# Altium schematic symbol library SCH - ARM Cortex - NXP K32L2B21VFM0A.SchLib: 1 symbol
Pins are listed as number, name and electrical type; pins without a type are passive.

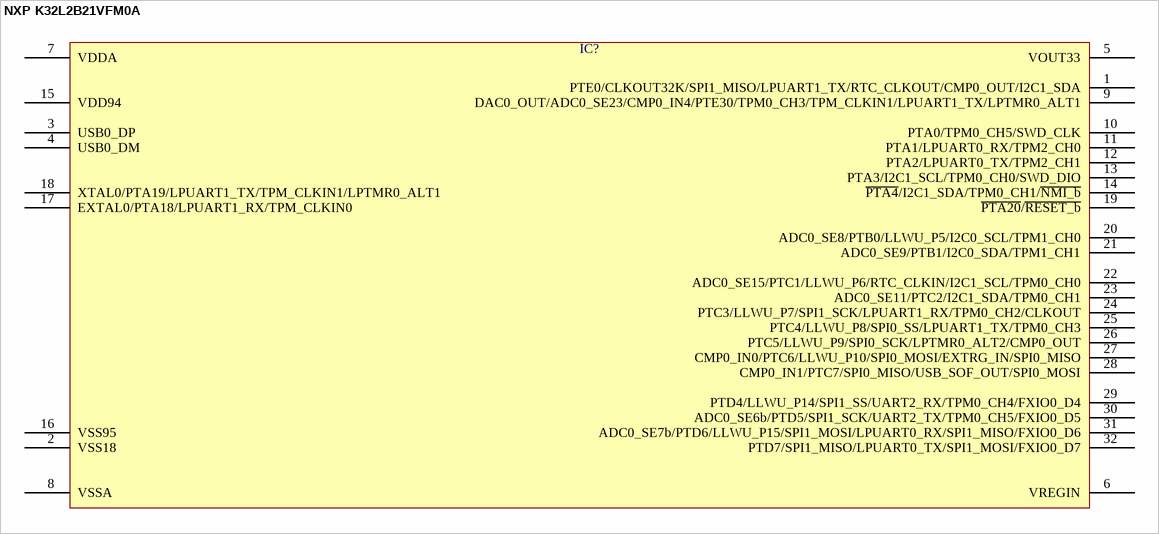
[diagram p0: symbol NXP K32L2B21VFM0A]

## NXP K32L2B21VFM0A
designator IC?  (value not drawn)
pins: 1 PTE0/CLKOUT32K/SPI1_MISO/LPUART1_TX/RTC_CLKOUT/CMP0_OUT/I2C1_SDA, 2 VSS18, 3 USB0_DP, 4 USB0_DM, 5 VOUT33, 6 VREGIN, 7 VDDA, 8 VSSA, 9 DAC0_OUT/ADC0_SE23/CMP0_IN4/PTE30/TPM0_CH3/TPM_CLKIN1/LPUART1_TX/LPTMR0_ALT1, 10 PTA0/TPM0_CH5/SWD_CLK, 11 PTA1/LPUART0_RX/TPM2_CH0, 12 PTA2/LPUART0_TX/TPM2_CH1, 13 PTA3/I2C1_SCL/TPM0_CH0/SWD_DIO, 14 ~{PTA4}/I2C1_SDA/TPM0_CH1/~{NMI_b}, 15 VDD94, 16 VSS95, 17 EXTAL0/PTA18/LPUART1_RX/TPM_CLKIN0, 18 XTAL0/PTA19/LPUART1_TX/TPM_CLKIN1/LPTMR0_ALT1, 19 ~{PTA20}/~{RESET_b}, 20 ADC0_SE8/PTB0/LLWU_P5/I2C0_SCL/TPM1_CH0, 21 ADC0_SE9/PTB1/I2C0_SDA/TPM1_CH1, 22 ADC0_SE15/PTC1/LLWU_P6/RTC_CLKIN/I2C1_SCL/TPM0_CH0, 23 ADC0_SE11/PTC2/I2C1_SDA/TPM0_CH1, 24 PTC3/LLWU_P7/SPI1_SCK/LPUART1_RX/TPM0_CH2/CLKOUT, 25 PTC4/LLWU_P8/SPI0_SS/LPUART1_TX/TPM0_CH3, 26 PTC5/LLWU_P9/SPI0_SCK/LPTMR0_ALT2/CMP0_OUT, 27 CMP0_IN0/PTC6/LLWU_P10/SPI0_MOSI/EXTRG_IN/SPI0_MISO, 28 CMP0_IN1/PTC7/SPI0_MISO/USB_SOF_OUT/SPI0_MOSI, 29 PTD4/LLWU_P14/SPI1_SS/UART2_RX/TPM0_CH4/FXIO0_D4, 30 ADC0_SE6b/PTD5/SPI1_SCK/UART2_TX/TPM0_CH5/FXIO0_D5, 31 ADC0_SE7b/PTD6/LLWU_P15/SPI1_MOSI/LPUART0_RX/SPI1_MISO/FXIO0_D6, 32 PTD7/SPI1_MISO/LPUART0_TX/SPI1_MOSI/FXIO0_D7